# Altium footprint library JST.PcbLib: 2 footprints
Each footprint in its own frame and in the unit in brackets; x right, y up, seen from the top. Pads: shape width x height; smd on the part's side, far side on the other; paste and mask are expansions set on the pad; w line width, h text height; cw(c..) or ccw(c..) is an arc to the next point about the centre after c.
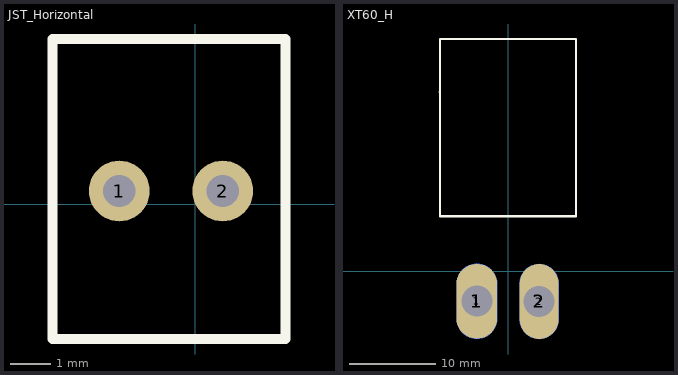
[diagram p0: the footprints below, top view; thin cyan lines are the x and y axes]

## JST_Horizontal [mm]
pads (2):
  round 1.5 hole 0.8: 1(-1.875,0.325) 2(0.675,0.325)
Top Overlay:
  lines w0.254: -3.525,-3.325 -3.525,4.075 2.225,4.075 2.225,-3.325 -3.525,-3.325
3D body "User Library-S2B-XH-A-1.step": height 5.95, standoff -3.4, extent -4.1,-8.75 3.3,2.75

## XT60_H [mil]
pads (6):
  round 60 hole 141.73: 1(-143,-137) 2(142,-139)
  oval 185.98x343.46 smd far side: 1(-143,-137)
  oval 185.98x343.46 smd: 1(-143,-137)
  oval 178.11x343.46 smd far side: 2(142,-138)
  oval 178.11x343.46 smd: 2(142,-138)
Top Overlay:
  lines w10: -313,820 cw(c-313,819) -312,819 ; -312.05,252 ccw(c-312.05,252.05) -312,252.05 -312,1062.53 310,1062.53 310,267.25 310,252.25 310,252 -312.05,252
3D body "User Library-XT60 male.STEP": height 337.6, standoff 16.73, extent -314.99,228 310.99,1062.65